# EAGLE library part SI1988DH (library stan)
2 N-Channel MOSFET Package: SC-70-6
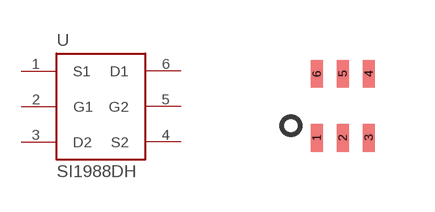
[diagram p0: symbol with the pads of SC-70-6; footprint SC-70-6]

Designator prefix -

## SI1988DHA  [SC-70-6]
1  S1
2  G1
3  D2
4  S2
5  G2
6  D1

## Footprint SC-70-6 (pad centres in mm)
smd 0.3 x 0.7: 1 -0.65,-0.8; 2 0,-0.8; 3 0.65,-0.8; 4 0.65,0.8; 5 0,0.8; 6 -0.65,0.8